# Altium footprint library molex connector.PcbLib: 14 footprints
Each footprint in its own frame and in the unit in brackets; x right, y up, seen from the top. Pads: shape width x height; smd on the part's side, far side on the other; paste and mask are expansions set on the pad; w line width, h text height; cw(c..) or ccw(c..) is an arc to the next point about the centre after c.
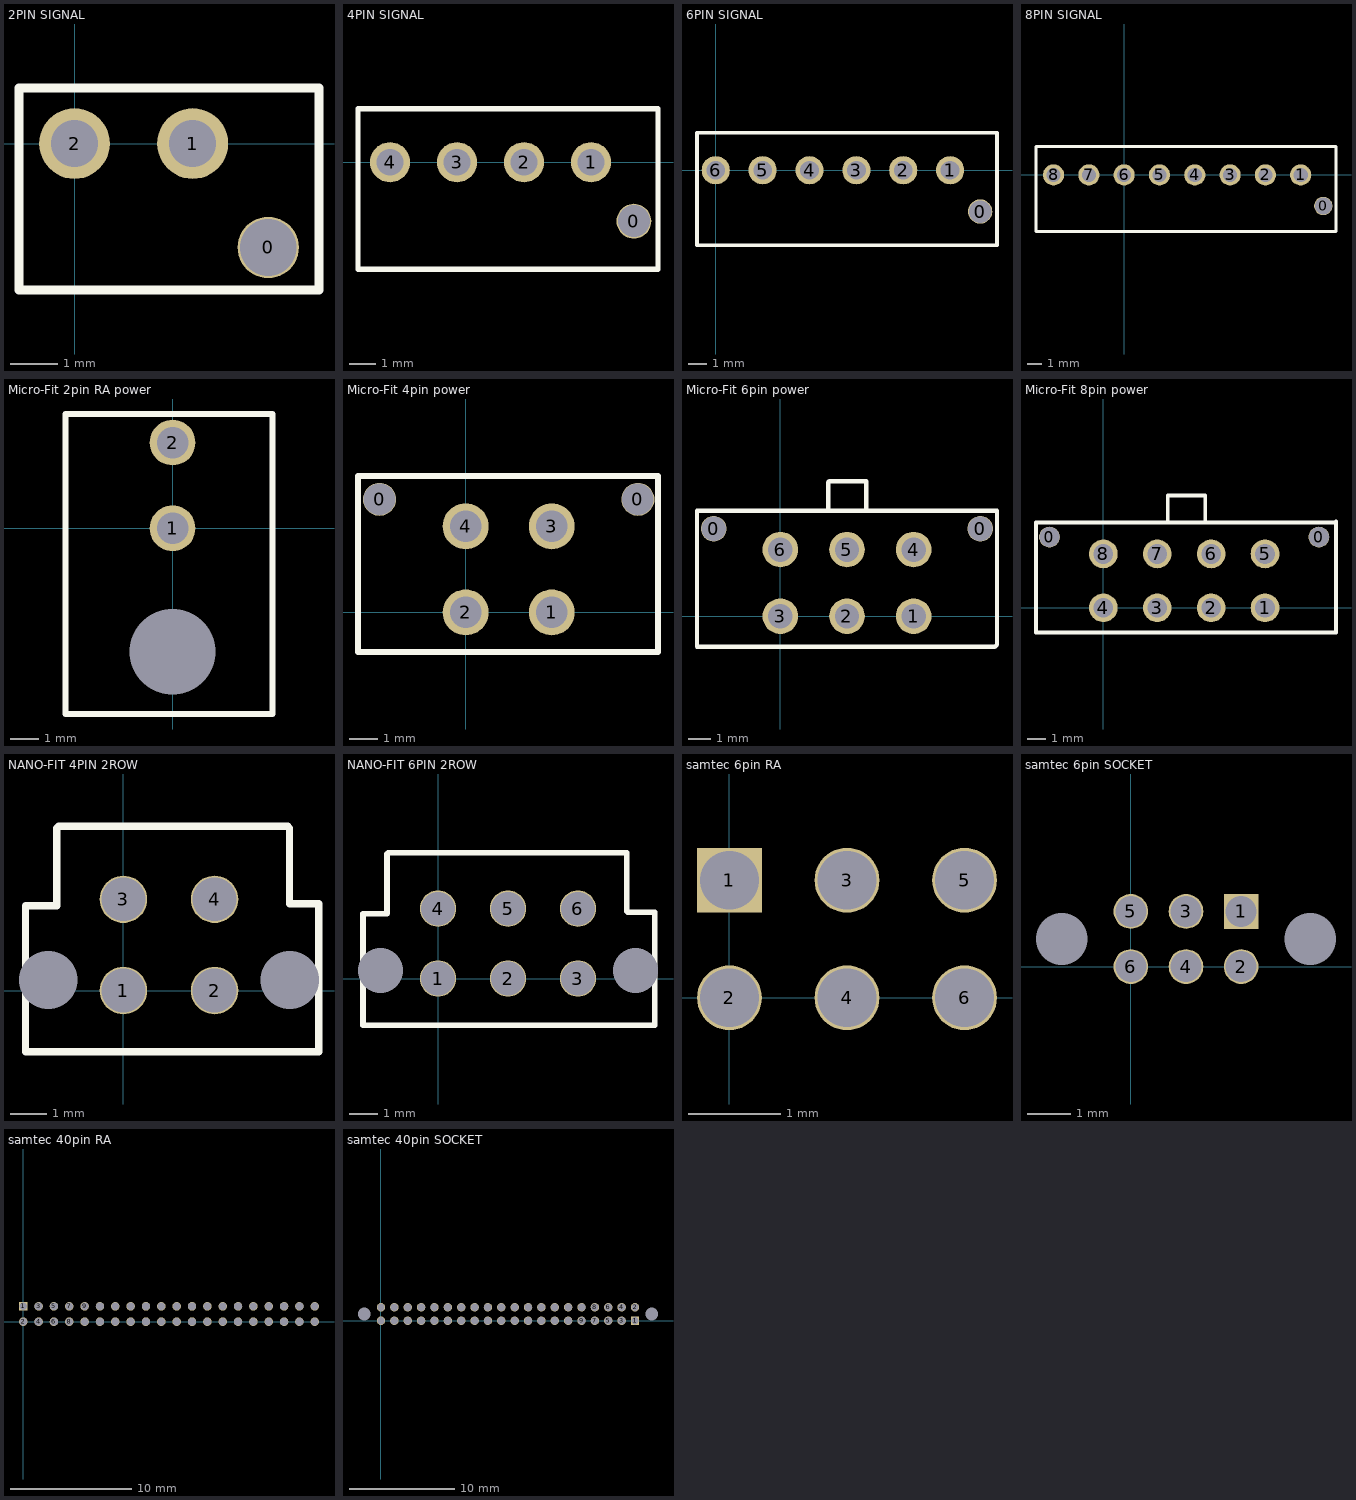
[diagram p0: the footprints below, top view; thin cyan lines are the x and y axes]

## 2PIN SIGNAL [mm]
pads (3):
  round 1.3 hole 1.2: 0(4.1,-2.2)
  round 1.5 hole 1: 1(2.5,0) 2(0,0)
Top Overlay:
  lines w0.2: -1.175,-3.1 -1.175,1.175 5.175,1.175 5.175,-3.1 -1.175,-3.1
3D body "533750210.stp": height 11.75, standoff -3.18, extent -2.44,-3.385 4.96,3.415

## 4PIN SIGNAL [mm]
pads (5):
  round 1.3 hole 1.2: 0(14.1,-2.2)
  round 1.5 hole 1: 1(12.5,0) 2(10,0) 3(7.5,0) 4(5,0)
Top Overlay:
  lines w0.2: 3.804,-4 15,-4 15,2 3.804,2 3.804,-4
3D body "533750410.stp": height 11.75, standoff -3.18, extent 2.54,-3.389 14.94,3.411

## 6PIN SIGNAL [mm]
pads (7):
  round 1.3 hole 1.2: 0(14.1,-2.2)
  round 1.5 hole 1: 1(12.5,0) 2(10,0) 3(7.5,0) 4(5,0) 5(2.5,0) 6(0,0)
Top Overlay:
  lines w0.2: -1,-4 -1,2 15,2 15,-4 -1,-4
3D body "533750610.stp": height 11.75, standoff -3.18, extent -2.47,-3.433 14.93,3.367

## 8PIN SIGNAL [mm]
pads (9):
  round 1.3 hole 1.2: 0(14.1,-2.2)
  round 1.5 hole 1: 1(12.5,0) 2(10,0) 3(7.5,0) 4(5,0) 5(2.5,0) 6(0,0) 7(-2.5,0) 8(-5,0)
Top Overlay:
  lines w0.2: -6.242,-4 15,-4 15,2 -6.242,2 -6.242,-4
3D body "533750810.stp": height 11.75, standoff -3.18, extent -7.412,-3.371 14.988,3.429

## Micro-Fit 2pin RA power [mm]
pads (3):
  round 0 hole 3: 0(0,-4.32)
  round 1.6 hole 1.1: 1(0,0) 2(0,3)
Top Overlay:
  lines w0.2: -3.75,-1.375 -3.75,4 ; -3.75,4 -3.75,-6.5 3.5,-6.5 3.5,1.275 3.5,4 -3.75,4
3D body "430450200.stp": height 9.83, standoff -2.11, extent -3.575,-9 3.575,3.24

## Micro-Fit 4pin power [mm]
pads (6):
  round 1.15 hole 1.1: 0(-3,3.94) 0(6,3.94)
  round 1.6 hole 1.1: 1(3,0) 2(0,0) 3(3,3) 4(0,3)
Top Overlay:
  lines w0.2: 6.7,-1.375 -3.75,-1.375 ; 6.7,-1.3 6.7,4.75 -3.75,4.75 ; -3.75,-1.375 -3.75,4.75 ; -3.75,-1.375 -3.75,4.75
3D body "430450427.stp": height 9.95, standoff -3.14, extent -3.525,-2.52 6.625,6.25

## Micro-Fit 6pin power [mm]
pads (8):
  round 1.15 hole 1.1: 0(-3,3.94) 0(9,3.94)
  round 1.6 hole 1.1: 1(6,0) 2(3,0) 3(0,0) 4(6,3) 5(3,3) 6(0,3)
Top Overlay:
  lines w0.2: 2.15,4.85 2.15,6.025 2.2,6.075 3.875,6.075 ; 3.875,4.75 3.875,6.075 ; -3.75,-1.375 -3.75,4.75 ; -3.75,-1.375 9.65,-1.375 9.75,-1.275 9.75,1.275 9.75,4.75 -3.75,4.75 ; -3.75,-1.375 -3.75,4.75 ; 3.875,6.075 3.875,6.075
3D body "449140601.stp": height 9.95, standoff -3.14, extent -3.6,-2.46 9.55,6.31

## Micro-Fit 8pin power [mm]
pads (10):
  round 1.15 hole 1.1: 0(-3,3.94) 0(12,3.94)
  round 1.6 hole 1.1: 1(9,0) 2(6,0) 3(3,0) 4(0,0) 5(9,3) 6(6,3) 7(3,3) 8(0,3)
Top Overlay:
  lines w0.2: 3.575,4.75 3.575,6.25 5.675,6.25 5.675,4.775 5.65,4.75 ; -3.75,-1.375 -3.75,4.75 ; -3.75,-1.375 9.65,-1.375 12.95,-1.375 12.95,4.825 12.875,4.75 9.75,4.75 -3.75,4.75 ; -3.75,-1.375 -3.75,4.75
3D body "449140801.stp": height 9.95, standoff -3.14, extent -3.55,-2.485 12.6,6.285

## NANO-FIT 4PIN 2ROW [mm]
pads (6):
  round 0 hole 1.6: 0(-2.06,0.29) 0(4.56,0.29)
  round 1.3 hole 1.2: 1(0,0) 2(2.5,0) 3(0,2.5) 4(2.5,2.5)
Top Overlay:
  lines w0.2: -1.825,3.175 -1.825,4.45 -1.775,4.5 3.8,4.5 4.5,4.5 4.55,4.45 4.55,2.375 5.35,2.375 5.35,0.8 5.35,-1.675 -2.68,-1.675 -2.68,-1.525 -2.68,-0.455 -2.68,2.32 -1.83,2.32 -1.825,2.325 -1.825,3.725
3D body "1053121304.stp": height 10.69, standoff -3.03, extent -2.835,-4.6 5.385,4.24

## NANO-FIT 6PIN 2ROW [mm]
pads (8):
  round 0 hole 1.6: 0(-2.06,0.29) 0(7.06,0.29)
  round 1.3 hole 1.2: 1(0,0) 2(2.5,0) 3(5,0) 4(0,2.5) 5(2.5,2.5) 6(5,2.5)
Top Overlay:
  lines w0.2: -1.825,3.175 -1.825,4.45 -1.775,4.5 6.75,4.5 6.75,3.25 6.75,2.4 6.775,2.375 7.75,2.375 7.75,0 7.75,-1.675 -2.68,-1.675 -2.68,-1.525 -2.68,-0.455 -2.68,2.32 -1.83,2.32 -1.825,2.325 -1.825,3.725
3D body "1053121306.stp": height 10.69, standoff -3.03, extent -2.86,-4.55 7.86,4.29

## samtec 6pin RA [mm]
pads (6):
  rect 0.7x0.7 hole 0.635: 1(0,1.27)
  round 0.7 hole 0.635: 2(0,0) 3(1.27,1.27) 4(1.27,0) 5(2.54,1.27) 6(2.54,0)
3D body "TFC-103-01-F-D-RA.stp": height 5.86, standoff -1.76, extent -2.217,-6.038 4.768,1.455

## samtec 6pin SOCKET [mm]
pads (8):
  round 0 hole 1.19: 0(-1.59,0.635) 0(4.13,0.635)
  rect 0.8x0.8 hole 0.71: 1(2.54,1.27)
  round 0.8 hole 0.71: 2(2.54,0) 3(1.27,1.27) 4(1.27,0) 5(0,1.27) 6(0,0)
3D body "SFC-103-T1-F-D-LC.stp": height 4.57, standoff -3.05, extent -2.622,-0.791 5.125,2.891

## samtec 40pin RA [mm]
pads (40):
  rect 0.7x0.7 hole 0.635: 1(0,1.27)
  round 0.7 hole 0.635: 2(0,0) 3(1.27,1.27) 4(1.27,0) 5(2.54,1.27) 6(2.54,0) 7(3.81,1.27) 8(3.81,0) 9(5.08,1.27) 10(5.08,0) 11(6.35,1.27) 12(6.35,0) 13(7.62,1.27) 14(7.62,0) 15(8.89,1.27) 16(8.89,0) 17(10.16,1.27) 18(10.16,0) 19(11.43,1.27) 20(11.43,0) 21(12.7,1.27) 22(12.7,0) 23(13.97,1.27) 24(13.97,0) 25(15.24,1.27) 26(15.24,0) 27(16.51,1.27) 28(16.51,0) 29(17.78,1.27) 30(17.78,0) 31(19.05,1.27) 32(19.05,0) 33(20.32,1.27) 34(20.32,0) 35(21.59,1.27) 36(21.59,0) 37(22.86,1.27) 38(22.86,0) 39(24.13,1.27) 40(24.13,0)
3D body "TFML-120-01-S-D-RA.stp": height 5.86, standoff -1.76, extent -2.262,-0.13 26.313,7.363

## samtec 40pin SOCKET [mm]
pads (42):
  round 0 hole 1.19: 0(-1.59,0.635) 0(25.72,0.635)
  rect 0.8x0.8 hole 0.71: 1(24.13,0)
  round 0.8 hole 0.71: 2(24.13,1.27) 3(22.86,0) 4(22.86,1.27) 5(21.59,0) 6(21.59,1.27) 7(20.32,0) 8(20.32,1.27) 9(19.05,0) 10(19.05,1.27) 11(17.78,0) 12(17.78,1.27) 13(16.51,0) 14(16.51,1.27) 15(15.24,0) 16(15.24,1.27) 17(13.97,0) 18(13.97,1.27) 19(12.7,0) 20(12.7,1.27) 21(11.43,0) 22(11.43,1.27) 23(10.16,0) 24(10.16,1.27) 25(8.89,0) 26(8.89,1.27) 27(7.62,0) 28(7.62,1.27) 29(6.35,0) 30(6.35,1.27) 31(5.08,0) 32(5.08,1.27) 33(3.81,0) 34(3.81,1.27) 35(2.54,0) 36(2.54,1.27) 37(1.27,0) 38(1.27,1.27) 39(0,0) 40(0,1.27)
3D body "SFML-120-01-L-D-LC.stp": height 4.57, standoff -3.05, extent -2.587,-0.916 26.75,2.766